# Altium schematic symbol library Rectifier_diode_2.SchLib: 1 symbol
Pins are listed as number, name and electrical type; pins without a type are passive.

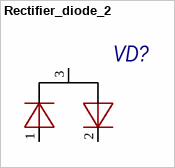
[diagram p0: symbol Rectifier_diode_2]

## Rectifier_diode_2
designator VD?
pins: 1, 2, 3